# Altium integrated library DIT074P05.IntLib: 1 symbol
Pins are listed as number, name and electrical type; pins without a type are passive.

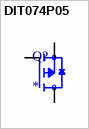
[diagram p0: symbol DIT074P05]

## DIT074P05
designator Q?
MP: DIT074P05; Package: None; Price: None; Value: *; Availability: Unavailable
footprint TO254P1010X450X1980-3B
pins: 1 G, 2 D, 3 S